# Altium footprint library TPS61022.PcbLib: 1 footprints
Each footprint in its own frame and in the unit in brackets; x right, y up, seen from the top. Pads: shape width x height; smd on the part's side, far side on the other; paste and mask are expansions set on the pad; w line width, h text height; cw(c..) or ccw(c..) is an arc to the next point about the centre after c.
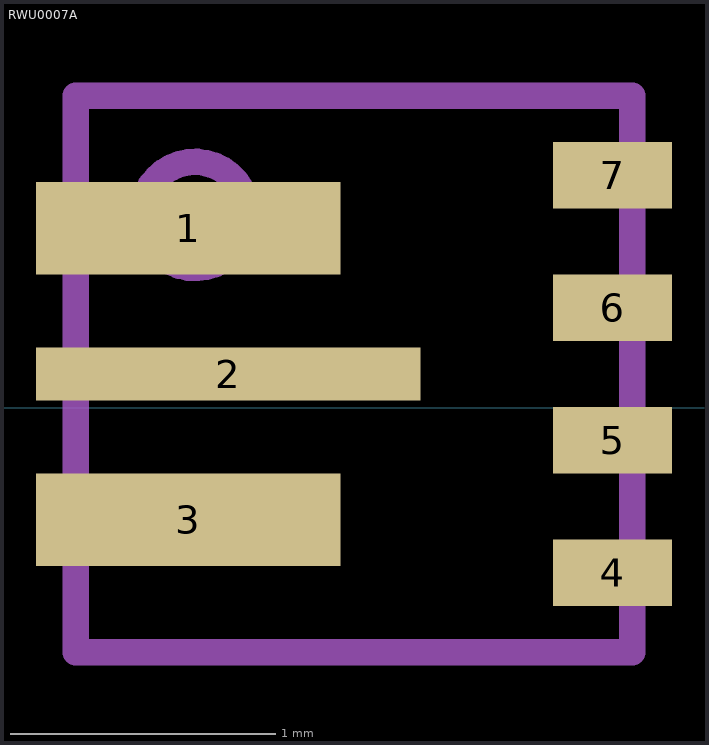
[diagram p0: the footprint, top view; thin cyan lines are the x and y axes]

## RWU0007A [mm]
pads (7):
  rect 1.15x0.35 smd paste-0.562 mask+0: 1(0.899,0.677) 3(0.899,-0.423)
  rect 1.45x0.2 smd paste-0.712 mask+0: 2(1.049,0.127)
  rect 0.45x0.25 smd paste+0 mask+0: 4(2.499,-0.623) 5(2.499,-0.123) 6(2.499,0.377) 7(2.499,0.877)
Top Paste:
  drawing of 6 lines, arcs and shapes, not listed
Mechanical 13:
  circle w0.1: c0.924,0.727 r0.2
  lines w0.1: 0.474,-0.923 2.574,-0.923 2.574,1.177 0.474,1.177 0.474,-0.923
3D body: height 0.25, standoff 0, extent 1.524,0.127 1.778,0.381